# Altium schematic symbol library PCB_Project_1.SCHLIB: 74 symbols (part 2 of 2)
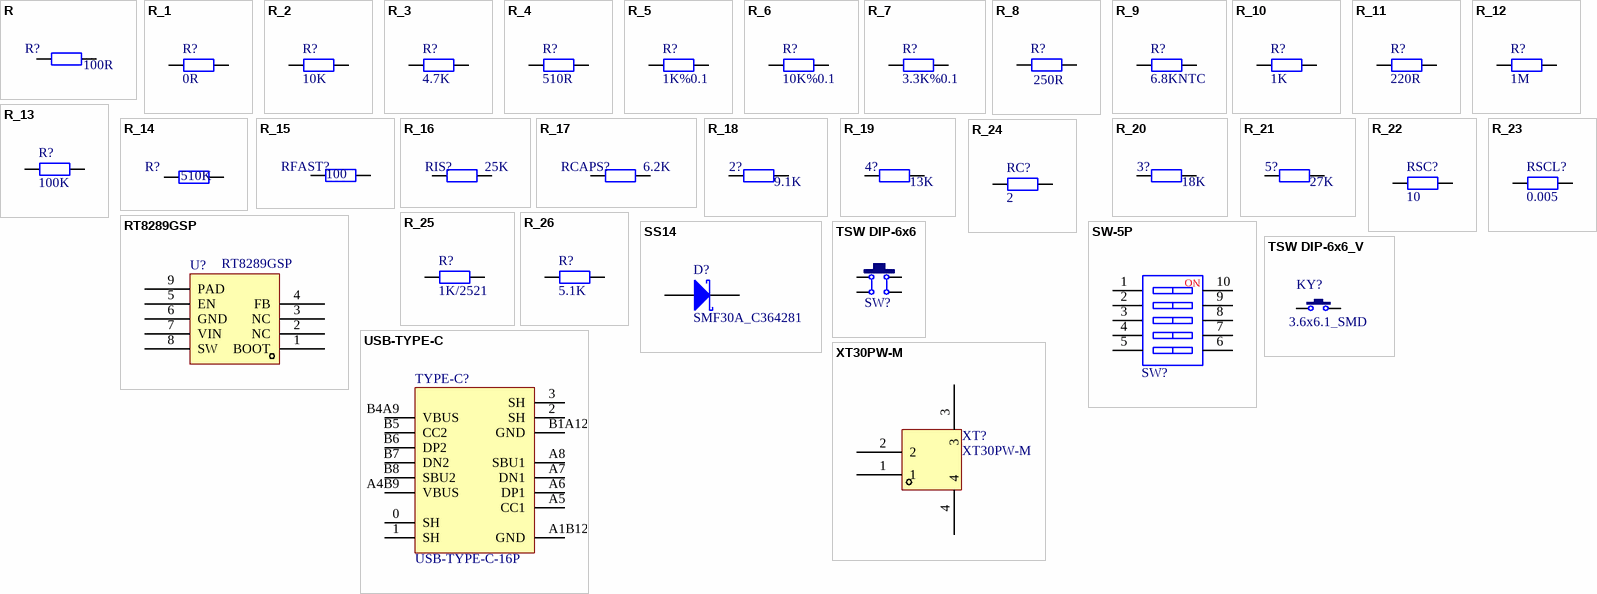
[diagram p2: symbols R to XT30PW-M]

## SW-5P
designator SW?  (value not drawn)
5路编码开关; 淘宝ID: 封装库来自淘宝 ID：黄晶宝石; BOM名称: 5路编码开关; 技术支持，联系售后: https://shop463601444.taobao.com
footprint SW DIP-5P (14.2*9.9*7mm)
footprint SW DIP-5P_G (14.2*9.9*7mm)
footprint SW1.27 SMD-5P (长：7.95mm，宽：5.4mm，高：2.3mm)
pins: 1, 2, 3, 4, 5, 6, 7, 8, 9, 10
text: NO

## TSW DIP-6x6
designator SW?, comment 6x6x5  (value not drawn)
直插6x6轻触开关; 版权归属: 封装库来自淘宝 ID：黄晶宝石; BOM名称: 直插6x6轻触开关; 唯一出售店铺网址: https://shop463601444.taobao.com
footprint SW DIP-6*6*6 (6*6*6mm)
footprint SW DIP-6*6*4.3 (6*6*4.3mm)
footprint SW DIP-6*6*9 (6*6*9mm)
footprint SW DIP-6*6*5 (6*6*5mm)
footprint SW DIP-6*6*7 (6*6*7mm)
footprint SW DIP-6*6*8 (6*6*8mm)
footprint SW DIP-6*6*10 (6*6*10mm)
footprint SW DIP-6*6*11 (6*6*11mm)
footprint SW DIP-6*6*12 (6*6*12mm)
footprint SW DIP-6*6*13 (6*6*13mm)
footprint SW DIP-6*6*14 (6*6*14mm)
footprint SW DIP-6*6*15 (6*6*15mm)
pins: 1, 2, 3, 4

## TSW DIP-6x6_V
designator KY?, comment 3.6x6.1_SMD
侧按直插6x6轻触开关; 版权归属: 封装库来自淘宝 ID：黄晶宝石; BOM名称: 直插6x6轻触开关; 技术支持，联系售后: https://shop463601444.taobao.com
footprint SW DIP-6*6*6_V (侧按轻触开关 6*6*6mm)
footprint SW DIP-6*6*4.3_V (侧按轻触开关 6*6*4.3mm)
footprint SW DIP-6*6*9_V (侧按轻触开关 6*6*9mm)
footprint SW DIP-6*6*5_V (侧按轻触开关 6*6*5mm)
footprint SW DIP-6*6*7_V (侧按轻触开关 6*6*7mm)
footprint SW DIP-6*6*8_V (侧按轻触开关 6*6*8mm)
footprint SW DIP-6*6*10_V (侧按轻触开关 6*6*10mm)
footprint SW DIP-6*6*11_V (侧按轻触开关 6*6*11mm)
footprint SW DIP-6*6*12_V (侧按轻触开关 6*6*12mm)
pins: 1, 2

## USB-TYPE-C
designator TYPE-C?, comment USB-TYPE-C-16P
footprint USB-TYPE-C
pins: 0 SH, 1 SH, 2 SH, 3 SH, A1B12 GND, A4B9 VBUS, A5 CC1, A6 DP1, A7 DN1, A8 SBU1, B1A12 GND, B4A9 VBUS, B5 CC2, B6 DP2, B7 DN2, B8 SBU2

## XT30PW-M
designator XT?
pins: 1, 2, 3, 4